# Altium footprint library transistor-npn.PCBLIB: 49 footprints (part 4 of 4)
Each footprint in its own frame and in the unit in brackets; x right, y up, seen from the top. Pads: shape width x height; smd on the part's side, far side on the other; paste and mask are expansions set on the pad; w line width, h text height; cw(c..) or ccw(c..) is an arc to the next point about the centre after c.
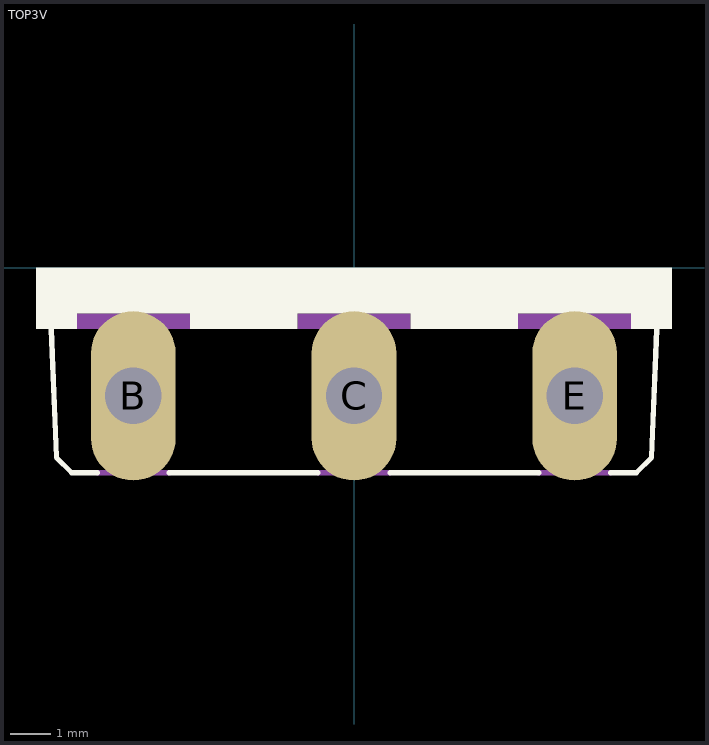
[diagram p3: the footprint, top view; thin cyan lines are the x and y axes]

## TOP3V [mil]
pads (3):
  oval 82.5x165 hole 55: B(-215,-125) C(0,-125) E(215,-125)
Top Overlay:
  rectangle: -310,-45 310,0
  rectangle: -310,-60 -270,-45
  rectangle: -160,-60 -55,-45
  rectangle: 55,-60 160,-45
  rectangle: 270,-60 310,-45
  lines w5: -295,-60 -290,-185 -275,-200 -250,-200 ; -180,-200 -35,-200 ; 35,-200 180,-200 ; 250,-200 275,-200 290,-185 295,-60
Mechanical 16:
  rectangle: -270,-60 -160,-45
  rectangle: -55,-60 55,-45
  rectangle: 160,-60 270,-45
  lines w5: -250,-200 -180,-200 ; -35,-200 35,-200 ; 180,-200 250,-200
  text "B" at -240,-175 h77.5
  text "C" at -25,-175 h77.5
  text "E" at 190,-175 h77.5